# EAGLE library part M05X02_FEM (library 1dah)
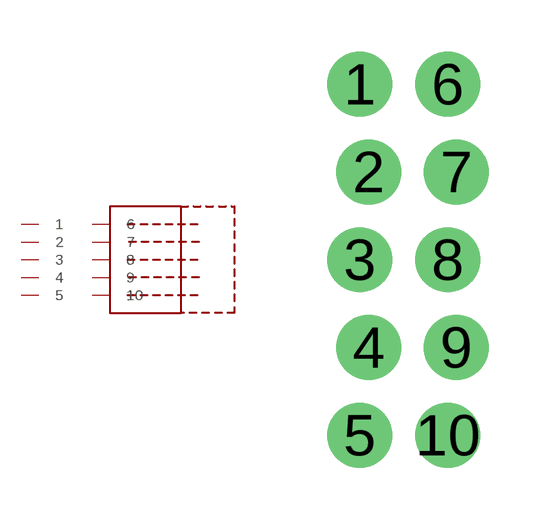
[diagram p67: symbol with the pads of 2X05_LOCK_RIGHT_ANGLE_FEM; footprint 2X05_LOCK_RIGHT_ANGLE_FEM]

Designator prefix -

## M05X02_FEM-LOCK_RIGHT_ANGLE_FEM  [2X05_LOCK_RIGHT_ANGLE_FEM]
1  1
2  2
3  3
4  4
5  5
6  6
7  7
8  8
9  9
10  10

## Footprint 2X05_LOCK_RIGHT_ANGLE_FEM (pad centres in mm)
drill 1.016 pad 1.88: 1 -6.477,5.08; 2 -6.223,2.54; 3 -6.477,0; 4 -6.223,-2.54; 5 -6.477,-5.08; 6 -3.937,5.08; 7 -3.683,2.54; 8 -3.937,0; 9 -3.683,-2.54; 10 -3.937,-5.08